# EAGLE library part FF0881SA1 (library CONNECTORs)
81 Position FPC Connector Contacts, Bottom 0.008" (0.20mm) Surface Mount, Right Angle
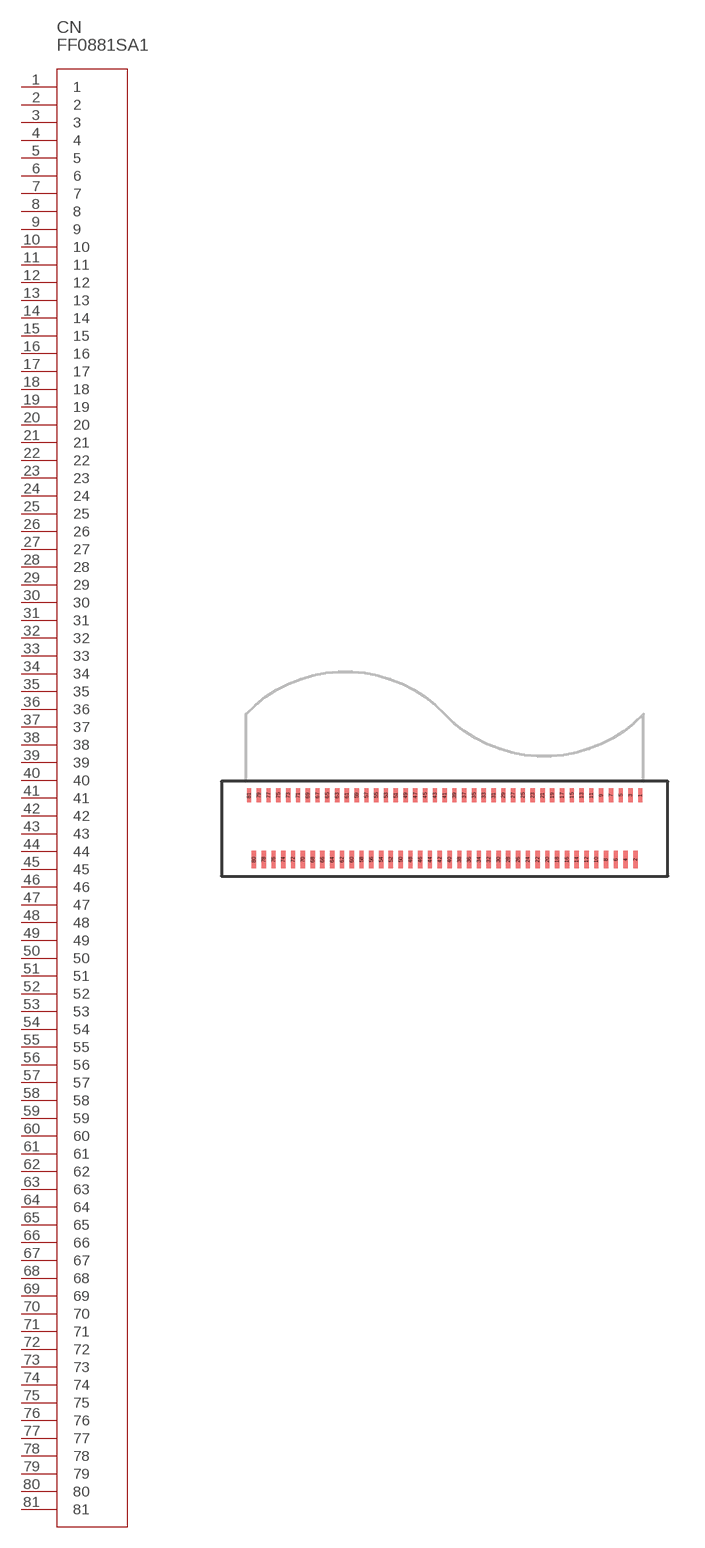
[diagram p79: symbol with the pads of CONN81_FF0881SA1_JAE; footprint CONN81_FF0881SA1_JAE]

Designator prefix CN

## FF0881SA1 (DIGIKEY: 670-2476-ND; HEIGHT: 1; PRICE_PER: 2.6; VALUE: FF0881SA1)  [CONN81_FF0881SA1_JAE]
1  1  pas
2  2  pas
3  3  pas
4  4  pas
5  5  pas
6  6  pas
7  7  pas
8  8  pas
9  9  pas
10  10  pas
11  11  pas
12  12  pas
13  13  pas
14  14  pas
15  15  pas
16  16  pas
17  17  pas
18  18  pas
19  19  pas
20  20  pas
21  21  pas
22  22  pas
23  23  pas
24  24  pas
25  25  pas
26  26  pas
27  27  pas
28  28  pas
29  29  pas
30  30  pas
31  31  pas
32  32  pas
33  33  pas
34  34  pas
35  35  pas
36  36  pas
37  37  pas
38  38  pas
39  39  pas
40  40  pas
41  41  pas
42  42  pas
43  43  pas
44  44  pas
45  45  pas
46  46  pas
47  47  pas
48  48  pas
49  49  pas
50  50  pas
51  51  pas
52  52  pas
53  53  pas
54  54  pas
55  55  pas
56  56  pas
57  57  pas
58  58  pas
59  59  pas
60  60  pas
61  61  pas
62  62  pas
63  63  pas
64  64  pas
65  65  pas
66  66  pas
67  67  pas
68  68  pas
69  69  pas
70  70  pas
71  71  pas
72  72  pas
73  73  pas
74  74  pas
75  75  pas
76  76  pas
77  77  pas
78  78  pas
79  79  pas
80  80  pas
81  81  pas

## Footprint CONN81_FF0881SA1_JAE (pad centres in mm)
smd 0.178 x 0.559: 1 8,1.684; 3 7.6,1.684; 5 7.2,1.684; 7 6.8,1.684; 9 6.4,1.684; 11 6,1.684; 13 5.6,1.684; 15 5.2,1.684; 17 4.8,1.684; 19 4.4,1.684; 21 4,1.684; 23 3.6,1.684; 25 3.2,1.684; 27 2.8,1.684; 29 2.4,1.684; 31 2,1.684; 33 1.6,1.684; 35 1.2,1.684; 37 0.8,1.684; 39 0.4,1.684; 41 0,1.684; 43 -0.4,1.684; 45 -0.8,1.684; 47 -1.2,1.684; 49 -1.6,1.684; 51 -2,1.684; 53 -2.4,1.684; 55 -2.8,1.684; 57 -3.2,1.684; 59 -3.6,1.684; 61 -4,1.684; 63 -4.4,1.684; 65 -4.8,1.684; 67 -5.2,1.684; 69 -5.6,1.684; 71 -6,1.684; 73 -6.4,1.684; 75 -6.8,1.684; 77 -7.2,1.684; 79 -7.6,1.684; 81 -8,1.684
smd 0.178 x 0.711: 2 7.8,-0.941; 4 7.4,-0.941; 6 7,-0.941; 8 6.6,-0.941; 10 6.2,-0.941; 12 5.8,-0.941; 14 5.4,-0.941; 16 5,-0.941; 18 4.6,-0.941; 20 4.2,-0.941; 22 3.8,-0.941; 24 3.4,-0.941; 26 3,-0.941; 28 2.6,-0.941; 30 2.2,-0.941; 32 1.8,-0.941; 34 1.4,-0.941; 36 1,-0.941; 38 0.6,-0.941; 40 0.2,-0.941; 42 -0.2,-0.941; 44 -0.6,-0.941; 46 -1,-0.941; 48 -1.4,-0.941; 50 -1.8,-0.941; 52 -2.2,-0.941; 54 -2.6,-0.941; 56 -3,-0.941; 58 -3.4,-0.941; 60 -3.8,-0.941; 62 -4.2,-0.941; 64 -4.6,-0.941; 66 -5,-0.941; 68 -5.4,-0.941; 70 -5.8,-0.941; 72 -6.2,-0.941; 74 -6.6,-0.941; 76 -7,-0.941; 78 -7.4,-0.941; 80 -7.8,-0.941